# EAGLE library part MCP2562-E/SN (library ahrs)
High-Speed CAN Transceiver,SOIC-8
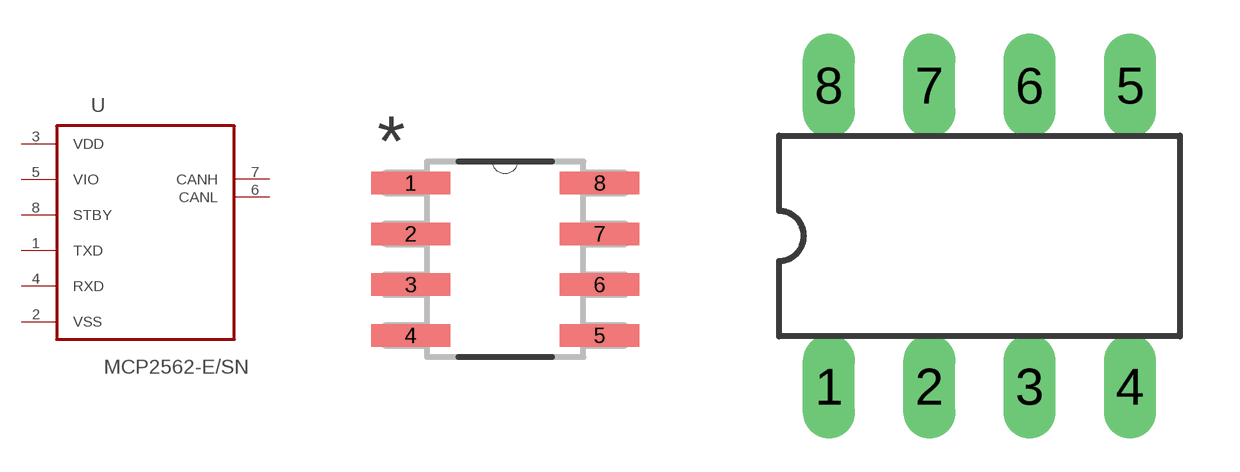
[diagram p2: symbol with the pads of SOIC-8N; footprints SOIC-8N, DIL8]

Designator prefix U

## MCP2562-E/SN  [SOIC-8N]
1  TXD  in
2  VSS  pwr
3  VDD  pwr
4  RXD  out
5  VIO  pwr
6  CANL
7  CANH
8  STBY  in

## MCP2562-E/SNDIL8  [DIL8]
Pads as for SOIC-8N

## Footprint SOIC-8N (pad centres in mm)
smd 1.981 x 0.559: 1 1.448,5.715; 2 1.448,4.445; 3 1.448,3.175; 4 1.448,1.905; 5 6.172,1.905; 6 6.172,3.175; 7 6.172,4.445; 8 6.172,5.715

## Footprint DIL8 (pad centres in mm)
drill 0.813 long: 1 -6.35,-3.81; 2 -3.81,-3.81; 3 -1.27,-3.81; 4 1.27,-3.81; 5 1.27,3.81; 6 -1.27,3.81; 7 -3.81,3.81; 8 -6.35,3.81